# Altium footprint library SMT6PinHeader_SAMTEC_HLE-103-02-S-DV-BE-K-TR.PcbLib: 1 footprints
Each footprint in its own frame and in the unit in brackets; x right, y up, seen from the top. Pads: shape width x height; smd on the part's side, far side on the other; paste and mask are expansions set on the pad; w line width, h text height; cw(c..) or ccw(c..) is an arc to the next point about the centre after c.
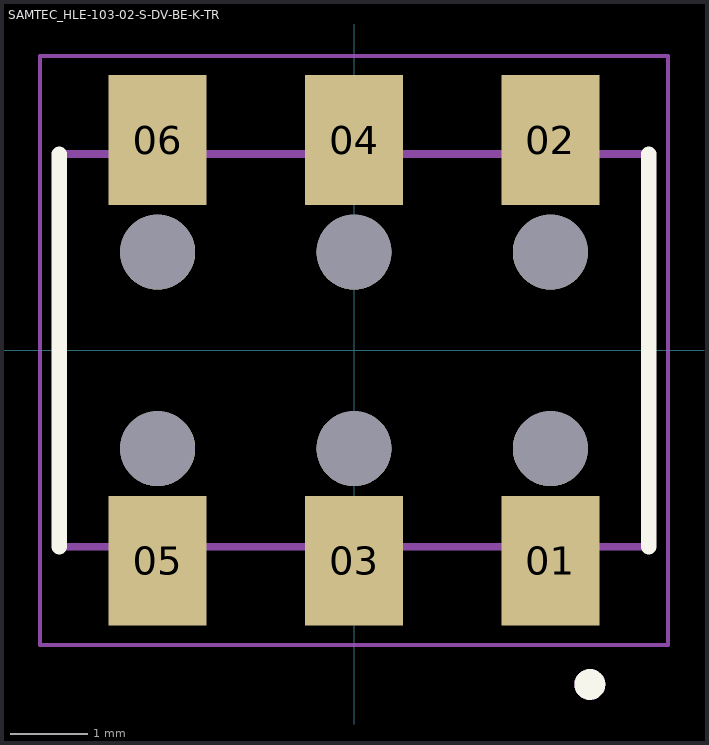
[diagram p0: the footprint, top view; thin cyan lines are the x and y axes]

## SAMTEC_HLE-103-02-S-DV-BE-K-TR [mm]
pads (12):
  rect 1.27x1.68 smd: 01(2.54,-2.72) 02(2.54,2.72) 03(0,-2.72) 04(0,2.72) 05(-2.54,-2.72) 06(-2.54,2.72)
  round 0.97 hole 0.97 unplated: ""(-2.54,-1.27) ""(-2.54,1.27) ""(0,-1.27) ""(0,1.27) ""(2.54,-1.27) ""(2.54,1.27)
Top Overlay:
  circle w0.2: c3.05,-4.32 r0.1
  lines w0.2: -3.81,-2.54 -3.81,2.54 ; 3.81,-2.54 3.81,2.54
Mechanical 13:
  circle w0.2: c3.05,-4.32 r0.1
  lines w0.1: -3.81,-2.54 -3.81,2.54 3.81,2.54 3.81,-2.54 -3.81,-2.54
Mechanical 15:
  lines w0.05: -4.06,-3.81 -4.06,3.81 4.06,3.81 4.06,-3.81 -4.06,-3.81
3D body "SMT6PinHeader_HLE-103-02-S-DV-BE-K-TR.stp": height 3.66, standoff 0, extent -3.81,-3.289 3.81,3.289